# EAGLE library part RN-XV (library CustomParts)
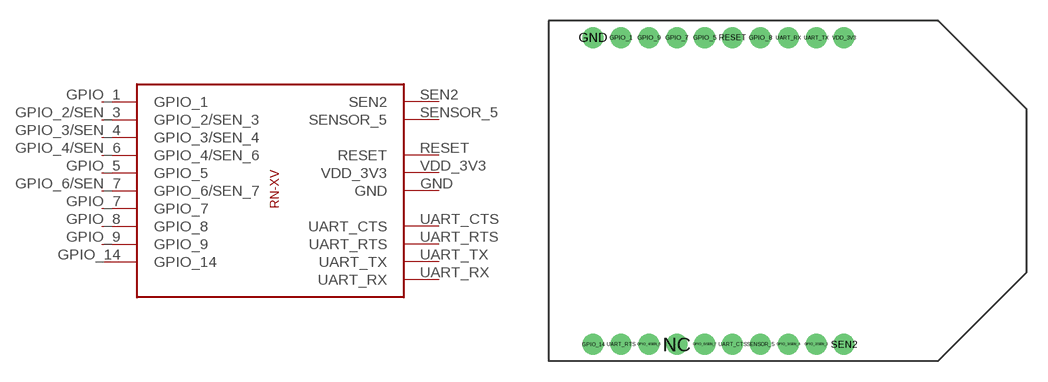
[diagram p0: symbol with the pads of RN-XV; footprint RN-XV]

Designator prefix -

## RN-XV  [RN-XV]
GND  GND
GPIO_1  GPIO_1
GPIO_2/SEN_3  GPIO_2/SEN_3
GPIO_3/SEN_4  GPIO_3/SEN_4
GPIO_4/SEN_6  GPIO_4/SEN_6
GPIO_5  GPIO_5
GPIO_6/SEN_7  GPIO_6/SEN_7
GPIO_7  GPIO_7
GPIO_8  GPIO_8
GPIO_9  GPIO_9
GPIO_14  GPIO_14
RESET  RESET
SEN2  SEN2
SENSOR_5  SENSOR_5
UART_CTS  UART_CTS
UART_RTS  UART_RTS
UART_RX  UART_RX
UART_TX  UART_TX
VDD_3V3  VDD_3V3

## Footprint RN-XV (pad centres in mm)
drill 1: GND -9,10.998; GPIO_1 -7,10.998; GPIO_2/SEN_3 7,-10.998; GPIO_3/SEN_4 5,-10.998; GPIO_4/SEN_6 -5,-10.998; GPIO_5 -1,10.998; GPIO_6/SEN_7 -1,-10.998; GPIO_7 -3,10.998; GPIO_8 3,10.998; GPIO_9 -5,10.998; GPIO_14 -9,-10.998; NC -3,-10.998; RESET 1,10.998; SEN2 9,-10.998; SENSOR_5 3,-10.998; UART_CTS 1,-10.998; UART_RTS -7,-10.998; UART_RX 5,10.998; UART_TX 7,10.998; VDD_3V3 9,10.998